# EAGLE library part MT7621 (library ds_ic_peripherals)
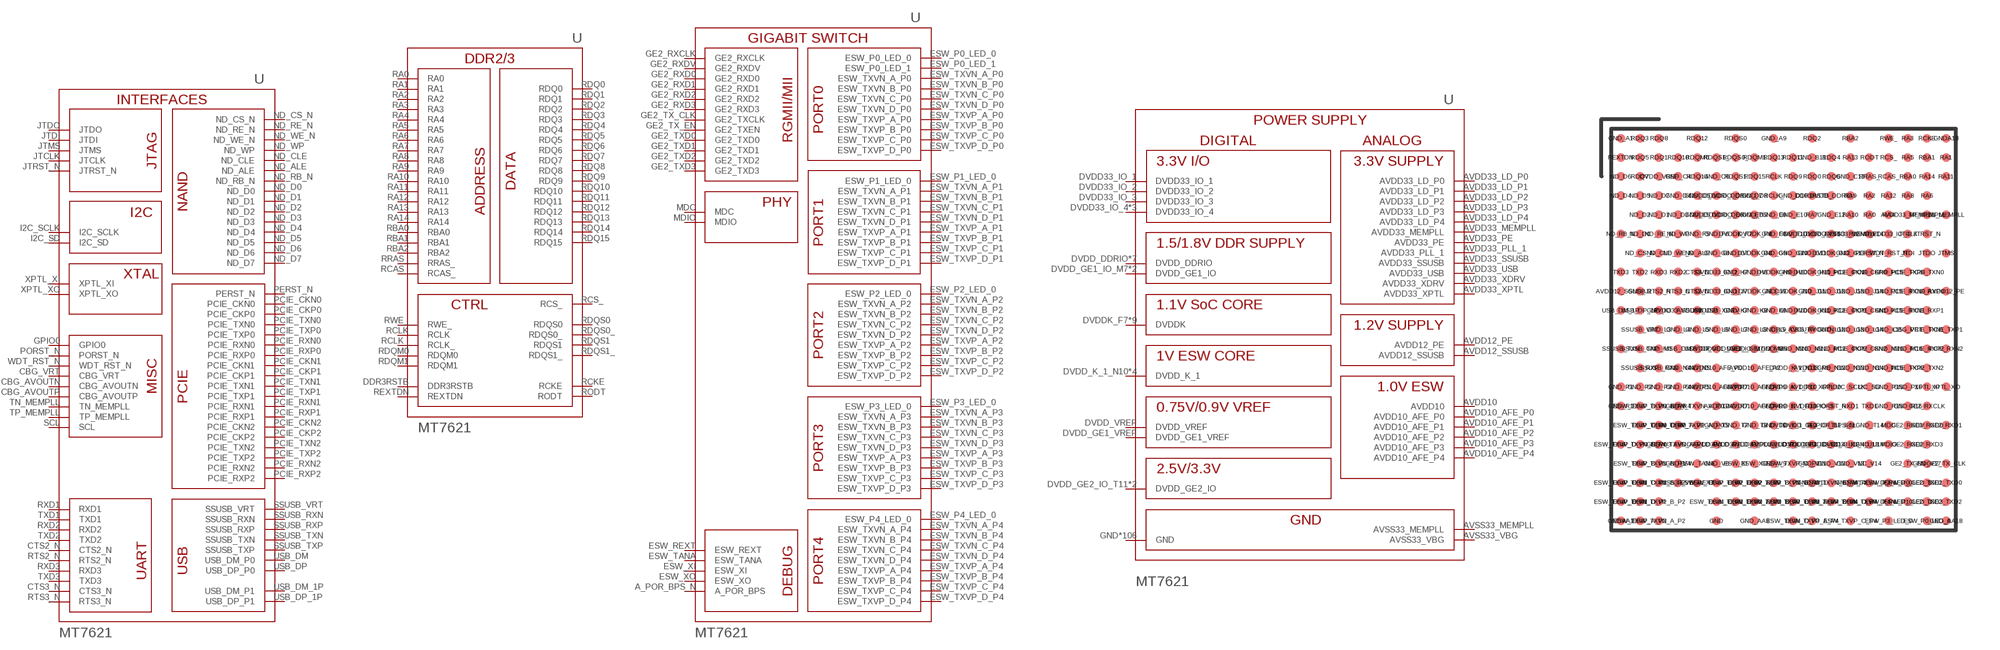
[diagram p58: symbol with the pads of TFBGA-387; footprint TFBGA-387]

Designator prefix -

## MT7621  [TFBGA-387]
A_POR_BPS_N  A_POR_BPS
AVDD10  AVDD10
AVDD10_AFE_P0  AVDD10_AFE_P0
AVDD10_AFE_P1  AVDD10_AFE_P1
AVDD10_AFE_P2  AVDD10_AFE_P2
AVDD10_AFE_P3  AVDD10_AFE_P3
AVDD10_AFE_P4  AVDD10_AFE_P4
AVDD12_PE  AVDD12_PE
AVDD12_SSUSB  AVDD12_SSUSB
AVDD33_LD_P0  AVDD33_LD_P0
AVDD33_LD_P1  AVDD33_LD_P1
AVDD33_LD_P2  AVDD33_LD_P2
AVDD33_LD_P3  AVDD33_LD_P3
AVDD33_LD_P4  AVDD33_LD_P4
AVDD33_MEMPLL  AVDD33_MEMPLL
AVDD33_PE  AVDD33_PE
AVDD33_PLL_1  AVDD33_PLL_1
AVDD33_SSUSB  AVDD33_SSUSB
AVDD33_USB  AVDD33_USB
AVDD33_XDRV  AVDD33_XDRV
AVDD33_XPTL  AVDD33_XPTL
AVSS33_MEMPLL  AVSS33_MEMPLL
AVSS33_VBG  AVSS33_VBG
CBG_AVOUTN  CBG_AVOUTN
CBG_AVOUTP  CBG_AVOUTP
CBG_VRT  CBG_VRT
CTS2_N  CTS2_N
CTS3_N  CTS3_N
DDR3RSTB  DDR3RSTB
DVDD33_IO_1  DVDD33_IO_1
DVDD33_IO_2  DVDD33_IO_2
DVDD33_IO_3  DVDD33_IO_3
DVDD33_IO_4  DVDD33_IO_4
DVDD33_IO_4_U12  DVDD33_IO_4
DVDD33_IO_4_U13  DVDD33_IO_4
DVDD_DDRIO  DVDD_DDRIO
DVDD_DDRIO_D6  DVDD_DDRIO
DVDD_DDRIO_D7  DVDD_DDRIO
DVDD_DDRIO_E6  DVDD_DDRIO
DVDD_DDRIO_E7  DVDD_DDRIO
DVDD_DDRIO_F11  DVDD_DDRIO
DVDD_DDRIO_F12  DVDD_DDRIO
DVDD_GE1_IO_M7  DVDD_GE1_IO
DVDD_GE1_IO_M8  DVDD_GE1_IO
DVDD_GE1_VREF  DVDD_GE1_VREF
DVDD_GE2_IO_T11  DVDD_GE2_IO
DVDD_GE2_IO_U11  DVDD_GE2_IO
DVDD_K_1_N10  DVDD_K_1
DVDD_K_1_P10  DVDD_K_1
DVDD_K_1_R10  DVDD_K_1
DVDD_K_1_T10  DVDD_K_1
DVDD_VREF  DVDD_VREF
DVDDK_F7  DVDDK
DVDDK_F8  DVDDK
DVDDK_G8  DVDDK
DVDDK_G12  DVDDK
DVDDK_H9  DVDDK
DVDDK_H11  DVDDK
DVDDK_J8  DVDDK
DVDDK_J10  DVDDK
DVDDK_K11  DVDDK
ESW_P0_LED_0  ESW_P0_LED_0
ESW_P0_LED_1  ESW_P0_LED_1
ESW_P1_LED_0  ESW_P1_LED_0
ESW_P2_LED_0  ESW_P2_LED_0
ESW_P3_LED_0  ESW_P3_LED_0
ESW_P4_LED_0  ESW_P4_LED_0
ESW_REXT  ESW_REXT
ESW_TANA  ESW_TANA
ESW_TXVN_A_P0  ESW_TXVN_A_P0
ESW_TXVN_A_P1  ESW_TXVN_A_P1
ESW_TXVN_A_P2  ESW_TXVN_A_P2
ESW_TXVN_A_P3  ESW_TXVN_A_P3
ESW_TXVN_A_P4  ESW_TXVN_A_P4
ESW_TXVN_B_P0  ESW_TXVN_B_P0
ESW_TXVN_B_P1  ESW_TXVN_B_P1
ESW_TXVN_B_P2  ESW_TXVN_B_P2
ESW_TXVN_B_P3  ESW_TXVN_B_P3
ESW_TXVN_B_P4  ESW_TXVN_B_P4
ESW_TXVN_C_P0  ESW_TXVN_C_P0
ESW_TXVN_C_P1  ESW_TXVN_C_P1
ESW_TXVN_C_P2  ESW_TXVN_C_P2
ESW_TXVN_C_P3  ESW_TXVN_C_P3
ESW_TXVN_C_P4  ESW_TXVN_C_P4
ESW_TXVN_D_P0  ESW_TXVN_D_P0
ESW_TXVN_D_P1  ESW_TXVN_D_P1
ESW_TXVN_D_P2  ESW_TXVN_D_P2
ESW_TXVN_D_P3  ESW_TXVN_D_P3
ESW_TXVN_D_P4  ESW_TXVN_D_P4
ESW_TXVP_A_P0  ESW_TXVP_A_P0
ESW_TXVP_A_P1  ESW_TXVP_A_P1
ESW_TXVP_A_P2  ESW_TXVP_A_P2
ESW_TXVP_A_P3  ESW_TXVP_A_P3
ESW_TXVP_A_P4  ESW_TXVP_A_P4
ESW_TXVP_B_P0  ESW_TXVP_B_P0
ESW_TXVP_B_P1  ESW_TXVP_B_P1
ESW_TXVP_B_P2  ESW_TXVP_B_P2
ESW_TXVP_B_P3  ESW_TXVP_B_P3
ESW_TXVP_B_P4  ESW_TXVP_B_P4
ESW_TXVP_C_P0  ESW_TXVP_C_P0
ESW_TXVP_C_P1  ESW_TXVP_C_P1
ESW_TXVP_C_P2  ESW_TXVP_C_P2
ESW_TXVP_C_P3  ESW_TXVP_C_P3
ESW_TXVP_C_P4  ESW_TXVP_C_P4
ESW_TXVP_D_P0  ESW_TXVP_D_P0
ESW_TXVP_D_P1  ESW_TXVP_D_P1
ESW_TXVP_D_P2  ESW_TXVP_D_P2
ESW_TXVP_D_P3  ESW_TXVP_D_P3
ESW_TXVP_D_P4  ESW_TXVP_D_P4
ESW_XI  ESW_XI
ESW_XO  ESW_XO
GE2_RXCLK  GE2_RXCLK
GE2_RXD0  GE2_RXD0
GE2_RXD1  GE2_RXD1
GE2_RXD2  GE2_RXD2
GE2_RXD3  GE2_RXD3
GE2_RXDV  GE2_RXDV
GE2_TX_CLK  GE2_TXCLK
GE2_TX_EN  GE2_TXEN
GE2_TXD0  GE2_TXD0
GE2_TXD1  GE2_TXD1
GE2_TXD2  GE2_TXD2
GE2_TXD3  GE2_TXD3
GND  GND
GND_A1  GND
GND_A9  GND
GND_AA8  GND
GND_AA18  GND
GND_B11  GND
GND_C4  GND
GND_C6  GND
GND_C13  GND
GND_D4  GND
GND_D5  GND
GND_D8  GND
GND_D9  GND
GND_D10  GND
GND_E5  GND
GND_E9  GND
GND_E10  GND
GND_E12  GND
GND_F5  GND
GND_F6  GND
GND_F9  GND
GND_F10  GND
GND_F14  GND
GND_G6  GND
GND_G7  GND
GND_G9  GND
GND_G10  GND
GND_G11  GND
GND_G13  GND
GND_H7  GND
GND_H8  GND
GND_H10  GND
GND_H12  GND
GND_H15  GND
GND_J2  GND
GND_J7  GND
GND_J9  GND
GND_J11  GND
GND_J12  GND
GND_J13  GND
GND_J14  GND
GND_J15  GND
GND_K3  GND
GND_K7  GND
GND_K8  GND
GND_K9  GND
GND_K10  GND
GND_K12  GND
GND_K15  GND
GND_L3  GND
GND_L4  GND
GND_L5  GND
GND_L6  GND
GND_L7  GND
GND_L8  GND
GND_L9  GND
GND_L12  GND
GND_L13  GND
GND_L14  GND
GND_L15  GND
GND_M3  GND
GND_M9  GND
GND_M10  GND
GND_M11  GND
GND_M12  GND
GND_M15  GND
GND_M16  GND
GND_N4  GND
GND_N5  GND
GND_N12  GND
GND_N13  GND
GND_N14  GND
GND_N15  GND
GND_P1  GND
GND_P2  GND
GND_P3  GND
GND_P4  GND
GND_P5  GND
GND_P7  GND
GND_P9  GND
GND_P15  GND
GND_P16  GND
GND_R1  GND
GND_R4  GND
GND_R7  GND
GND_R9  GND
GND_R15  GND
GND_R16  GND
GND_T5  GND
GND_T7  GND
GND_T8  GND
GND_T9  GND
GND_T14  GND
GND_U3  GND
GND_U14  GND
GND_V4  GND
GND_V6  GND
GND_V9  GND
GND_V11  GND
GND_V12  GND
GND_V13  GND
GND_V17  GND
GND_W11  GND
GND_W14  GND
GNDA18  GND
GNDAA1  GND
GPIO0  GPIO0
I2C_SCLK  I2C_SCLK
I2C_SD  I2C_SD
JTCLK  JTCLK
JTDI  JTDI
JTDO  JTDO
JTMS  JTMS
JTRST_N  JTRST_N
MDC  MDC
MDIO  MDIO
ND_ALE  ND_ALE
ND_CLE  ND_CLE
ND_CS_N  ND_CS_N
ND_D0  ND_D0
ND_D1  ND_D1
ND_D2  ND_D2
ND_D3  ND_D3
ND_D4  ND_D4
ND_D5  ND_D5
ND_D6  ND_D6
ND_D7  ND_D7
ND_RB_N  ND_RB_N
ND_RE_N  ND_RE_N
ND_WE_N  ND_WE_N
ND_WP  ND_WP
PCIE_CKN0  PCIE_CKN0
PCIE_CKN1  PCIE_CKN1
PCIE_CKN2  PCIE_CKN2
PCIE_CKP0  PCIE_CKP0
PCIE_CKP1  PCIE_CKP1
PCIE_CKP2  PCIE_CKP2
PCIE_RXN0  PCIE_RXN0
PCIE_RXN1  PCIE_RXN1
PCIE_RXN2  PCIE_RXN2
PCIE_RXP0  PCIE_RXP0
PCIE_RXP1  PCIE_RXP1
PCIE_RXP2  PCIE_RXP2
PCIE_TXN0  PCIE_TXN0
PCIE_TXN1  PCIE_TXN1
PCIE_TXN2  PCIE_TXN2
PCIE_TXP0  PCIE_TXP0
PCIE_TXP1  PCIE_TXP1
PCIE_TXP2  PCIE_TXP2
PERST_N  PERST_N
PORST_N  PORST_N
RA0  RA0
RA1  RA1
RA2  RA2
RA3  RA3
RA4  RA4
RA5  RA5
RA6  RA6
RA7  RA7
RA8  RA8
RA9  RA9
RA10  RA10
RA11  RA11
RA12  RA12
RA13  RA13
RA14  RA14
RBA0  RBA0
RBA1  RBA1
RBA2  RBA2
RCAS_  RCAS_
RCKE  RCKE
RCLK  RCLK
RCLK_  RCLK_
RCS_  RCS_
RDQ0  RDQ0
RDQ1  RDQ1
RDQ2  RDQ2
RDQ3  RDQ3
RDQ4  RDQ4
RDQ5  RDQ5
RDQ6  RDQ6
RDQ7  RDQ7
RDQ8  RDQ8
RDQ9  RDQ9
RDQ10  RDQ10
RDQ11  RDQ11
RDQ12  RDQ12
RDQ13  RDQ13
RDQ14  RDQ14
RDQ15  RDQ15
RDQM0  RDQM0
RDQM1  RDQM1
RDQS0  RDQS0
RDQS0_  RDQS0_
RDQS1  RDQS1
RDQS1_  RDQS1_
REXTDN  REXTDN
RODT  RODT
RRAS_  RRAS_
RTS2_N  RTS2_N
RTS3_N  RTS3_N
RWE_  RWE_
RXD1  RXD1
RXD2  RXD2
RXD3  RXD3
SCL  SCL
SSUSB_RXN  SSUSB_RXN
SSUSB_RXP  SSUSB_RXP
SSUSB_TXN  SSUSB_TXN
SSUSB_TXP  SSUSB_TXP
SSUSB_VRT  SSUSB_VRT
TN_MEMPLL  TN_MEMPLL
TP_MEMPLL  TP_MEMPLL
TXD1  TXD1
TXD2  TXD2
TXD3  TXD3
USB_DM  USB_DM_P0
USB_DM_1P  USB_DM_P1
USB_DP  USB_DP_P0
USB_DP_1P  USB_DP_P1
WDT_RST_N  WDT_RST_N
XPTL_XI  XPTL_XI
XPTL_XO  XPTL_XO

## Footprint TFBGA-387 (pad centres in mm)
smd 0.3 x 0.3: A_POR_BPS_N 1.625,-3.25; AVDD10 -2.275,-2.6; AVDD10_AFE_P0 -2.275,-1.3; AVDD10_AFE_P1 -2.275,-1.95; AVDD10_AFE_P2 -0.975,-1.3; AVDD10_AFE_P3 -0.975,-1.95; AVDD10_AFE_P4 -0.975,-2.6; AVDD12_PE 5.525,1.3; AVDD12_SSUSB -5.525,1.3; AVDD33_LD_P0 -2.925,-3.9; AVDD33_LD_P1 -2.275,-3.9; AVDD33_LD_P2 -1.625,-3.9; AVDD33_LD_P3 -0.325,-3.9; AVDD33_LD_P4 0.325,-3.9; AVDD33_MEMPLL 4.225,3.9; AVDD33_PE 0.975,-1.3; AVDD33_PLL_1 -0.975,-3.9; AVDD33_SSUSB -3.575,0.65; AVDD33_USB -2.925,0.65; AVDD33_XDRV -2.275,0.65; AVDD33_XPTL 0.975,-1.95; AVSS33_MEMPLL 2.275,3.25; AVSS33_VBG -3.575,-5.2; CBG_AVOUTN 0.975,0; CBG_AVOUTP 0.325,0; CBG_VRT 4.225,0; CTS2_N -2.925,1.3; CTS3_N -2.925,1.95; DDR3RSTB 0.975,4.55; DVDD33_IO_1 -2.275,1.3; DVDD33_IO_2 -2.275,1.95; DVDD33_IO_3 0.975,-2.6; DVDD33_IO_4 3.575,3.25; DVDD33_IO_4_U12 1.625,-3.9; DVDD33_IO_4_U13 2.275,-3.9; DVDD_DDRIO 1.625,4.55; DVDD_DDRIO_D6 -2.275,4.55; DVDD_DDRIO_D7 -1.625,4.55; DVDD_DDRIO_E6 -2.275,3.9; DVDD_DDRIO_E7 -1.625,3.9; DVDD_DDRIO_F11 0.975,3.25; DVDD_DDRIO_F12 1.625,3.25; DVDD_GE1_IO_M7 -1.625,-0.65; DVDD_GE1_IO_M8 -0.975,-0.65; DVDD_GE1_VREF -2.275,-0.65; DVDD_GE2_IO_T11 0.975,-3.25; DVDD_GE2_IO_U11 0.975,-3.9; DVDD_K_1_N10 0.325,-1.3; DVDD_K_1_P10 0.325,-1.95; DVDD_K_1_R10 0.325,-2.6; DVDD_K_1_T10 0.325,-3.25; DVDD_VREF -4.225,5.2; DVDDK_F7 -1.625,3.25; DVDDK_F8 -0.975,3.25; DVDDK_G8 -0.975,2.6; DVDDK_G12 1.625,2.6; DVDDK_H9 -0.325,1.95; DVDDK_H11 0.975,1.95; DVDDK_J8 -0.975,1.3; DVDDK_J10 0.325,1.3; DVDDK_K11 0.975,0.65; ESW_P0_LED_0 4.875,-6.5; ESW_P0_LED_1 4.225,-5.2; ESW_P1_LED_0 4.225,-5.85; ESW_P2_LED_0 3.575,-5.2; ESW_P3_LED_0 3.575,-6.5; ESW_P4_LED_0 3.575,-5.85; ESW_REXT -2.925,-5.2; ESW_TANA -2.925,-4.55; ESW_TXVN_A_P0 -2.925,-2.6; ESW_TXVN_A_P1 -3.575,-3.9; ESW_TXVN_A_P2 -4.225,-6.5; ESW_TXVN_A_P3 -0.975,-5.85; ESW_TXVN_A_P4 0.975,-5.85; ESW_TXVN_B_P0 -4.225,-2.6; ESW_TXVN_B_P1 -4.225,-4.55; ESW_TXVN_B_P2 -4.225,-5.2; ESW_TXVN_B_P3 -0.325,-5.85; ESW_TXVN_B_P4 1.625,-5.2; ESW_TXVN_C_P0 -4.225,-3.25; ESW_TXVN_C_P1 -4.875,-5.2; ESW_TXVN_C_P2 -2.275,-5.85; ESW_TXVN_C_P3 0.325,-6.5; ESW_TXVN_C_P4 2.275,-5.85; ESW_TXVN_D_P0 -4.875,-3.9; ESW_TXVN_D_P1 -4.875,-5.85; ESW_TXVN_D_P2 -1.625,-5.85; ESW_TXVN_D_P3 0.325,-5.2; ESW_TXVN_D_P4 2.925,-5.2; ESW_TXVP_A_P0 -2.925,-3.25; ESW_TXVP_A_P1 -3.575,-3.25; ESW_TXVP_A_P2 -4.875,-6.5; ESW_TXVP_A_P3 -0.975,-5.2; ESW_TXVP_A_P4 0.975,-6.5; ESW_TXVP_B_P0 -4.875,-2.6; ESW_TXVP_B_P1 -4.875,-4.55; ESW_TXVP_B_P2 -4.225,-5.85; ESW_TXVP_B_P3 -0.325,-5.2; ESW_TXVP_B_P4 1.625,-5.85; ESW_TXVP_C_P0 -4.875,-3.25; ESW_TXVP_C_P1 -5.525,-5.2; ESW_TXVP_C_P2 -2.275,-5.2; ESW_TXVP_C_P3 0.325,-5.85; ESW_TXVP_C_P4 2.275,-6.5; ESW_TXVP_D_P0 -5.525,-3.9; ESW_TXVP_D_P1 -5.525,-5.85; ESW_TXVP_D_P2 -1.625,-5.2; ESW_TXVP_D_P3 0.325,-4.55; ESW_TXVP_D_P4 2.925,-5.85; ESW_XI -1.625,-4.55; ESW_XO -0.975,-4.55; GE2_RXCLK 4.875,-2.6; GE2_RXD0 4.875,-3.25; GE2_RXD1 5.525,-3.25; GE2_RXD2 4.225,-3.9; GE2_RXD3 4.875,-3.9; GE2_RXDV 4.225,-3.25; GE2_TX_CLK 5.525,-4.55; GE2_TX_EN 4.225,-4.55; GE2_TXD0 5.525,-5.2; GE2_TXD1 4.875,-5.2; GE2_TXD2 5.525,-5.85; GE2_TXD3 4.875,-5.85; GND -2.275,-6.5; GND_A1 -5.525,6.5; GND_A9 -0.325,6.5; GND_AA8 -0.975,-6.5; GND_AA18 5.525,-6.5; GND_B11 0.975,5.85; GND_C4 -3.575,5.2; GND_C6 -2.275,5.2; GND_C13 2.275,5.2; GND_D4 -3.575,4.55; GND_D5 -2.925,4.55; GND_D8 -0.975,4.55; GND_D9 -0.975,3.9; GND_D10 0.325,4.55; GND_E5 -2.925,3.9; GND_E9 -0.325,3.9; GND_E10 0.325,3.9; GND_E12 1.625,3.9; GND_F5 -2.925,3.25; GND_F6 -2.275,3.25; GND_F9 -0.325,3.25; GND_F10 0.325,3.25; GND_F14 2.925,3.25; GND_G6 -2.275,2.6; GND_G7 -1.625,2.6; GND_G9 -0.325,2.6; GND_G10 0.325,2.6; GND_G11 0.975,2.6; GND_G13 2.275,2.6; GND_H7 -1.625,1.95; GND_H8 -0.975,1.95; GND_H10 0.325,1.95; GND_H12 1.625,1.95; GND_H15 3.575,1.95; GND_J2 -4.875,1.3; GND_J7 -1.625,1.3; GND_J9 -0.325,1.3; GND_J11 0.975,1.3; GND_J12 1.625,1.3; GND_J13 2.275,1.3; GND_J14 2.925,1.3; GND_J15 3.575,1.3; GND_K3 -4.225,0.65; GND_K7 -1.625,0.65; GND_K8 -0.975,0.65; GND_K9 -0.325,0.65; GND_K10 0.325,0.65; GND_K12 1.625,0.65; GND_K15 3.575,0.65; GND_L3 -4.225,0; GND_L4 -3.575,0; GND_L5 -2.925,0; GND_L6 -2.275,0; GND_L7 -1.625,0; GND_L8 -0.975,0; GND_L9 -0.325,0; GND_L12 1.625,0; GND_L13 2.275,0; GND_L14 2.925,0; GND_L15 3.575,0; GND_M3 -4.225,-0.65; GND_M9 -0.325,-0.65; GND_M10 0.325,-0.65; GND_M11 0.975,-0.65; GND_M12 1.625,-0.65; GND_M15 3.575,-0.65; GND_M16 4.225,-0.65; GND_N4 -3.575,-1.3; GND_N5 -2.925,-1.3; GND_N12 1.625,-1.3; GND_N13 2.275,-1.3; GND_N14 2.925,-1.3; GND_N15 3.575,-1.3; GND_P1 -5.525,-1.95; GND_P2 -4.875,-1.95; GND_P3 -4.225,-1.95; GND_P4 -3.575,-1.95; GND_P5 -2.925,-1.95; GND_P7 -1.625,-1.95; GND_P9 -0.325,-1.95; GND_P15 3.575,-1.95; GND_P16 4.225,-1.95; GND_R1 -5.525,-2.6; GND_R4 -3.575,-2.6; GND_R7 -1.625,-2.6; GND_R9 -0.325,-2.6; GND_R15 3.575,-2.6; GND_R16 4.225,-2.6; GND_T5 -2.275,-3.25; GND_T7 -1.625,-3.25; GND_T8 -0.975,-3.25; GND_T9 -0.325,-3.25; GND_T14 2.925,-3.25; GND_U3 -4.225,-3.9; GND_U14 2.925,-3.9; GND_V4 -3.575,-4.55; GND_V6 -2.275,-4.55; GND_V9 -0.325,-4.55; GND_V11 0.975,-4.55; GND_V12 1.625,-4.55; GND_V13 2.275,-4.55; GND_V17 4.875,-4.55; GND_W11 0.975,-5.2; GND_W14 2.275,-5.2; GNDA18 5.525,6.5; GNDAA1 -5.525,-6.5; GPIO0 1.625,-1.95; I2C_SCLK 2.275,-1.95; I2C_SD 2.925,-1.95; JTCLK 4.225,3.25; JTDI 4.225,2.6; JTDO 4.875,2.6; JTMS 5.525,2.6; JTRST_N 4.875,3.25; MDC 3.575,-3.25; MDIO 3.575,-3.9; NC_V14 2.925,-4.55; ND_ALE -2.925,2.6; ND_CLE -4.225,2.6; ND_CS_N -4.875,2.6; ND_D0 -4.875,3.25; ND_D1 -4.225,3.9; ND_D2 -4.875,3.9; ND_D3 -3.575,3.9; ND_D4 -5.525,4.55; ND_D5 -4.875,4.55; ND_D6 -5.525,5.2; ND_D7 -4.225,4.55; ND_RB_N -5.525,3.25; ND_RE_N -4.225,3.25; ND_WE_N -3.575,2.6; ND_WP -3.575,3.25; PCIE_CKN0 2.275,1.95; PCIE_CKN1 2.925,0.65; PCIE_CKN2 2.925,-0.65; PCIE_CKP0 2.925,1.95; PCIE_CKP1 2.275,0.65; PCIE_CKP2 2.275,-0.65; PCIE_RXN0 4.225,1.3; PCIE_RXN1 4.225,0.65; PCIE_RXN2 5.525,-0.65; PCIE_RXP0 4.875,1.3; PCIE_RXP1 4.875,0.65; PCIE_RXP2 4.875,-0.65; PCIE_TXN0 4.875,1.95; PCIE_TXN1 4.875,0; PCIE_TXN2 4.875,-1.3; PCIE_TXP0 4.225,1.95; PCIE_TXP1 5.525,0; PCIE_TXP2 4.225,-1.3; PERST_N 2.925,2.6; PORST_N 1.625,-2.6; RA0 2.925,3.9; RA1 5.525,5.85; RA2 2.925,4.55; RA3 4.225,6.5; RA4 3.575,3.9; RA5 4.225,5.85; RA6 4.875,4.55; RA7 0.975,3.9; RA8 4.225,4.55; RA9 2.275,4.55; RA10 2.275,3.9; RA11 5.525,5.2; RA12 3.575,4.55; RA13 2.275,5.85; RA14 4.875,5.2; RBA0 4.225,5.2; RBA1 4.875,5.85; RBA2 2.275,6.5; RCAS_ 3.575,5.2; RCKE 4.875,6.5; RCLK -0.325,5.2; RCLK_ -0.325,4.55; RCS_ 3.575,5.85; RDQ0 0.975,5.2; RDQ1 -4.225,5.85; RDQ2 0.975,6.5; RDQ3 -4.875,6.5; RDQ4 1.625,5.85; RDQ5 -4.875,5.85; RDQ6 1.625,5.2; RDQ7 -4.875,5.2; RDQ8 -4.225,6.5; RDQ9 0.325,5.2; RDQ10 -3.575,5.85; RDQ11 0.325,5.85; RDQ12 -2.925,6.5; RDQ13 -0.325,5.85; RDQ14 -2.925,5.2; RDQ15 -0.975,5.2; RDQM0 -2.925,5.85; RDQM1 -0.975,5.85; RDQS0 -1.625,6.5; RDQS0_ -1.625,5.85; RDQS1 -1.625,5.2; RDQS1_ -2.275,5.85; REXTDN -5.525,5.85; RODT 2.925,5.85; RRAS_ 2.925,5.2; RTS2_N -4.225,1.3; RTS3_N -3.575,1.3; RWE_ 3.575,6.5; RXD1 2.275,-2.6; RXD2 -3.575,1.95; RXD3 -4.225,1.95; SCL 2.275,-3.25; SSUSB_RXN -4.225,-1.3; SSUSB_RXP -4.875,-1.3; SSUSB_TXN -5.525,-0.65; SSUSB_TXP -4.875,-0.65; SSUSB_VRT -4.875,0; TN_MEMPLL 5.525,3.9; TP_MEMPLL 4.875,3.9; TXD1 2.925,-2.6; TXD2 -4.875,1.95; TXD3 -5.525,1.95; USB_DM -3.575,-0.65; USB_DM_1P -5.525,0.65; USB_DP -2.925,-0.65; USB_DP_1P -4.875,0.65; WDT_RST_N 3.575,2.6; XPTL_XI 4.875,-1.95; XPTL_XO 5.525,-1.95